# EAGLE library part SM4205 (library Display)
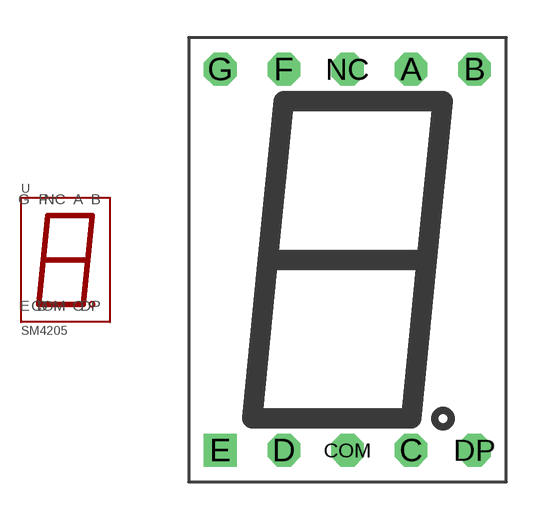
[diagram p9: symbol with the pads of SM4205; footprint SM4205]

Designator prefix -

## SM4205SM4205  [SM4205]
A  A
B  B
C  C
COM  COM
D  D
DP  DP
E  E
F  F
G  G
NC  NC

## Footprint SM4205 (pad centres in mm)
drill 0.8 octagon: A 2.54,7.62; B 5.08,7.62; C 2.54,-7.62; COM 0,-7.62; D -2.54,-7.62; DP 5.08,-7.62; F -2.54,7.62; G -5.08,7.62; NC 0,7.62
drill 0.8 square: E -5.08,-7.62